# Altium schematic symbol library MCU_Espressif.SchLib: 1 symbol
Pins are listed as number, name and electrical type; pins without a type are passive.

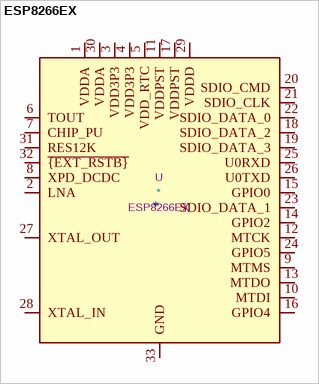
[diagram p0: symbol ESP8266EX]

## ESP8266EX
designator *  value ESP8266EX  Reference: U
ki_keywords: wifi soc; ki_description: Highly integrated Wi-Fi SoC, QFN-32; ki_fp_filters: QFN*1EP*5x5mm*P0.5mm*; Footprint: Package_DFN_QFN:QFN-32-1EP_5x5mm_P0.5mm_EP3.45x3.45mm; Datasheet: http://espressif.com/sites/default/files/documentation/0a-esp8266ex_datasheet_en.pdf
pins: 1 VDDA, 2 LNA, 3 VDD3P3, 4 VDD3P3, 5 VDD_RTC, 6 TOUT, 7 CHIP_PU, 8 XPD_DCDC, 9 MTMS, 10 MTDI, 11 VDDPST, 12 MTCK, 13 MTDO, 14 GPIO2, 15 GPIO0, 16 GPIO4, 17 VDDPST, 18 SDIO_DATA_2, 19 SDIO_DATA_3, 20 SDIO_CMD, 21 SDIO_CLK, 22 SDIO_DATA_0, 23 SDIO_DATA_1, 24 GPIO5, 25 U0RXD, 26 U0TXD, 27 XTAL_OUT, 28 XTAL_IN, 29 VDDD, 30 VDDA, 31 RES12K, 32 ~{{EXT_RSTB}}, 33 GND